# Altium footprint library Allegro A6214.PcbLib: 1 footprints
Each footprint in its own frame and in the unit in brackets; x right, y up, seen from the top. Pads: shape width x height; smd on the part's side, far side on the other; paste and mask are expansions set on the pad; w line width, h text height; cw(c..) or ccw(c..) is an arc to the next point about the centre after c.
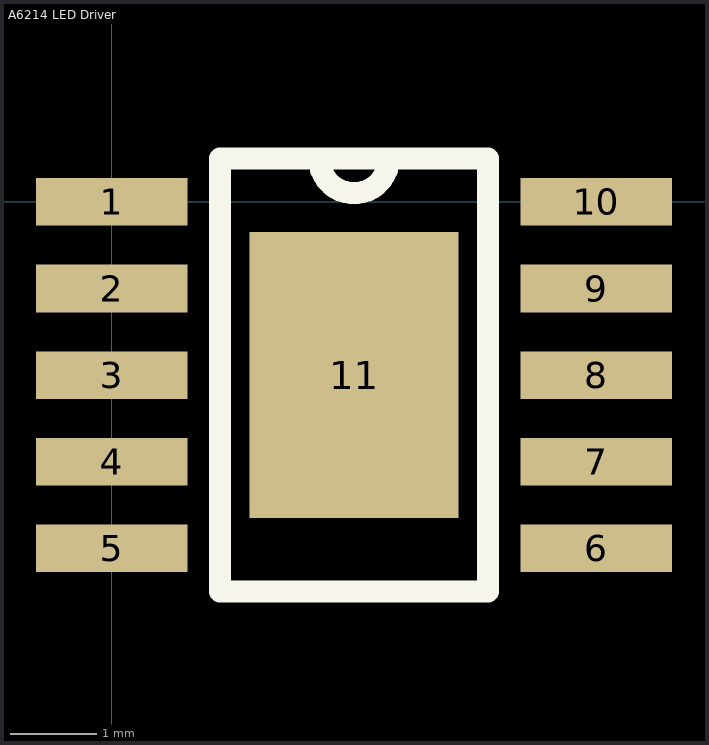
[diagram p0: the footprint, top view; thin cyan lines are the x and y axes]

## A6214 LED Driver [mm]
pads (11):
  rect 1.75x0.55 smd: 1(0,0) 2(0,-1) 3(0,-2) 4(0,-3) 5(0,-4) 6(5.6,-4) 7(5.6,-3) 8(5.6,-2) 9(5.6,-1) 10(5.6,0)
  rect 2.41x3.3 smd: 11(2.8,-2)
Top Overlay:
  lines w0.254: 2.4,0.5 ccw(c2.8,0.5) 3.2,0.5 ; 1.25,-4.5 1.25,0.5 4.35,0.5 4.35,-4.5 1.25,-4.5